# Altium footprint library Capacitor_THT.PcbLib: 378 footprints (part 6 of 24)
Each footprint in its own frame and in the unit in brackets; x right, y up, seen from the top. Pads: shape width x height; smd on the part's side, far side on the other; paste and mask are expansions set on the pad; w line width, h text height; cw(c..) or ccw(c..) is an arc to the next point about the centre after c.
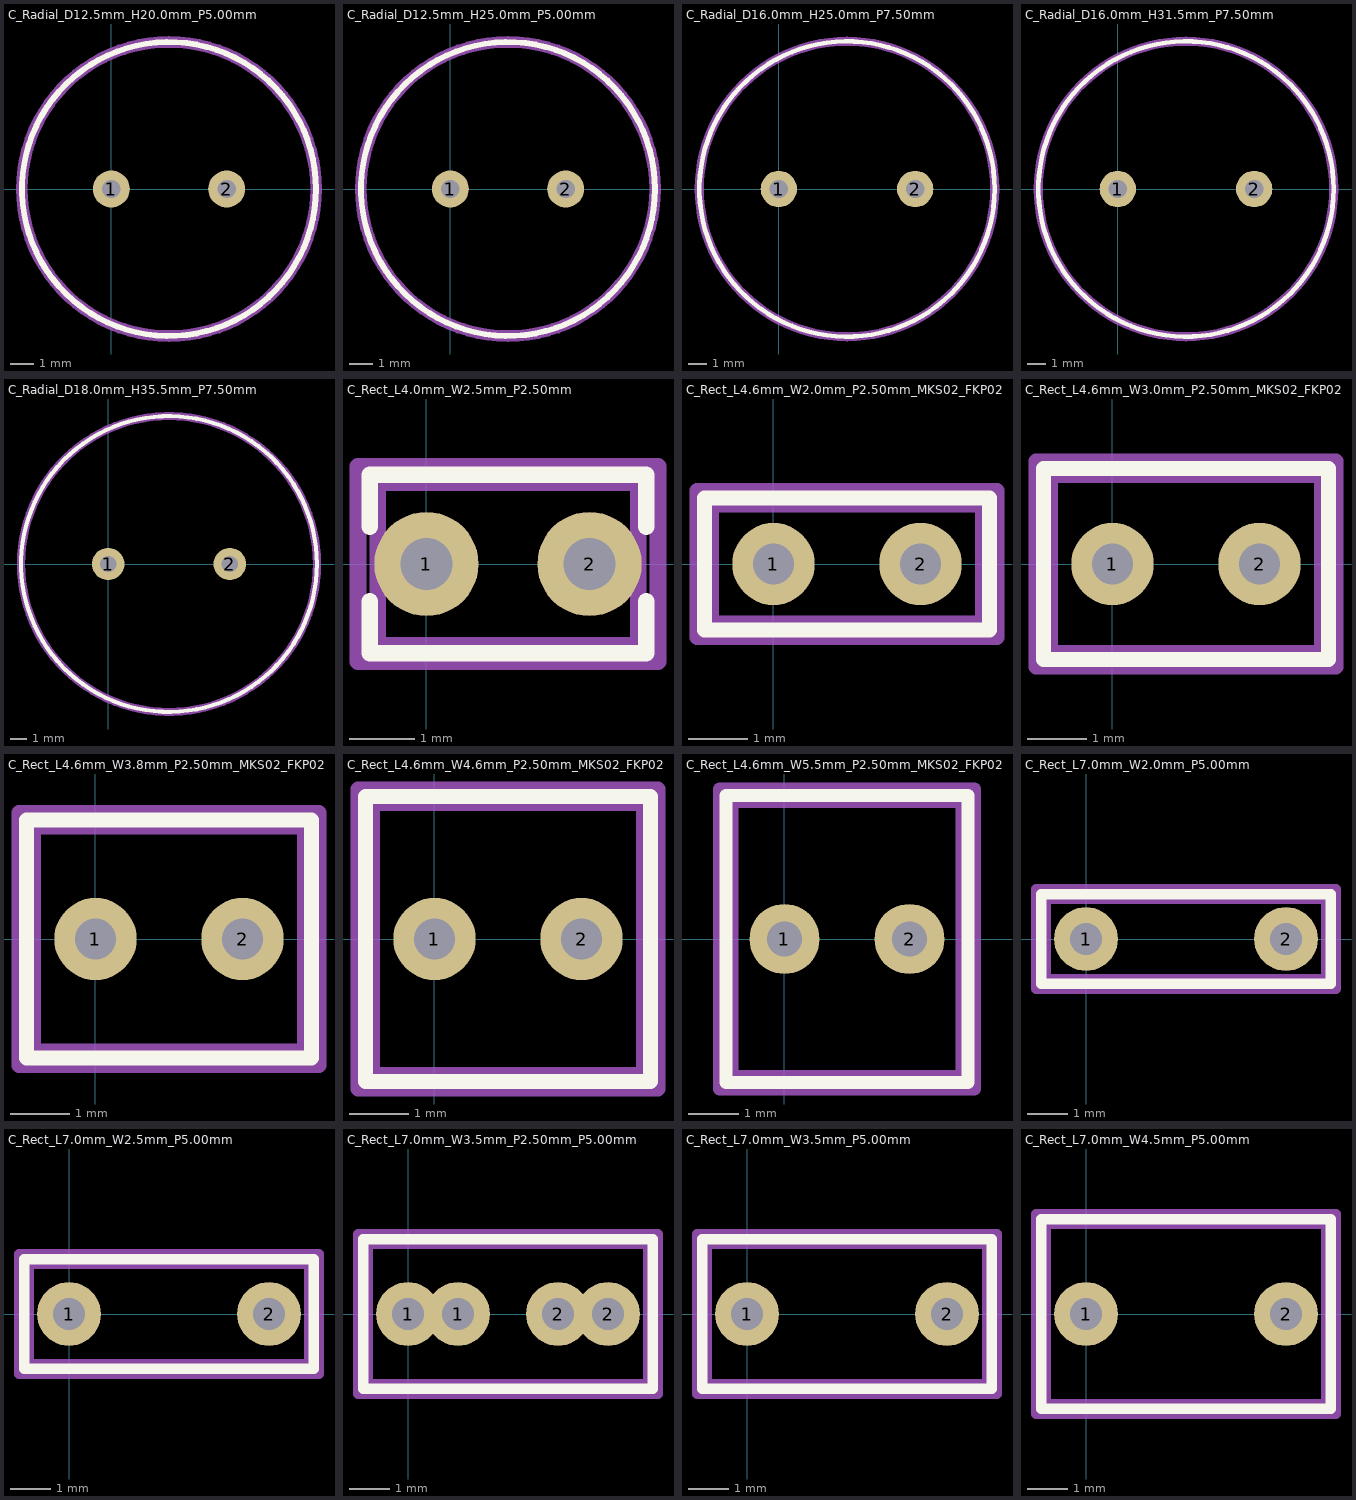
[diagram p5: the footprints below, top view; thin cyan lines are the x and y axes]

## C_Radial_D12.5mm_H20.0mm_P5.00mm [mm] "C_Radial_D12.5mm_H20.0mm_P5.00mm"
pads (2):
  round 1.6 hole 0.8: 1(0,0) 2(5,0)
F.SilkS:
  circle w0.254: c2.5,0 r6.37
Top Component Center:
  lines w0.127: -0.127,0 0.127,0 ; 0,-0.127 0,0.127
Top Assembly:
  circle w0.254: c2.5,0 r6.25
Top Courtyard:
  circle w0.254: c2.5,0 r6.5
Top Designator:
  text ".Designator" at 2.845,-3.434 h1.52
3D body "C_Radial_D12.5mm_H20.0mm_P5.00mm.step": height 20, standoff -2, extent -3.75,-6.248 8.75,6.247

## C_Radial_D12.5mm_H25.0mm_P5.00mm [mm] "C_Radial_D12.5mm_H25.0mm_P5.00mm"
pads (2):
  round 1.6 hole 0.8: 1(0,0) 2(5,0)
F.SilkS:
  circle w0.254: c2.5,0 r6.37
Top Component Center:
  lines w0.127: -0.127,0 0.127,0 ; 0,-0.127 0,0.127
Top Assembly:
  circle w0.254: c2.5,0 r6.25
Top Courtyard:
  circle w0.254: c2.5,0 r6.5
Top Designator:
  text ".Designator" at 2.845,-3.434 h1.52
3D body "C_Radial_D12.5mm_H25.0mm_P5.00mm.step": height 25, standoff -2, extent -3.75,-6.25 8.75,6.25

## C_Radial_D16.0mm_H25.0mm_P7.50mm [mm] "C_Radial_D16.0mm_H25.0mm_P7.50mm"
pads (2):
  round 2 hole 1: 1(0,0) 2(7.5,0)
F.SilkS:
  circle w0.254: c3.75,0 r8.12
Top Component Center:
  lines w0.127: -0.127,0 0.127,0 ; 0,-0.127 0,0.127
Top Assembly:
  circle w0.254: c3.75,0 r8
Top Courtyard:
  circle w0.254: c3.75,0 r8.25
Top Designator:
  text ".Designator" at 4.155,-3.561 h1.52
3D body "C_Radial_D16.0mm_H25.0mm_P7.50mm.step": height 25, standoff -2, extent -4.25,-7.997 11.75,7.997

## C_Radial_D16.0mm_H31.5mm_P7.50mm [mm] "C_Radial_D16.0mm_H31.5mm_P7.50mm"
pads (2):
  round 2 hole 1: 1(0,0) 2(7.5,0)
F.SilkS:
  circle w0.254: c3.75,0 r8.12
Top Component Center:
  lines w0.127: -0.127,0 0.127,0 ; 0,-0.127 0,0.127
Top Assembly:
  circle w0.254: c3.75,0 r8
Top Courtyard:
  circle w0.254: c3.75,0 r8.25
Top Designator:
  text ".Designator" at 4.028,-3.561 h1.52
3D body "C_Radial_D16.0mm_H31.5mm_P7.50mm.step": height 31.5, standoff -2, extent -4.25,-8 11.75,7.996

## C_Radial_D18.0mm_H35.5mm_P7.50mm [mm] "C_Radial_D18.0mm_H35.5mm_P7.50mm"
pads (2):
  round 2 hole 1: 1(0,0) 2(7.5,0)
F.SilkS:
  circle w0.254: c3.75,0 r9.12
Top Component Center:
  lines w0.127: -0.127,0 0.127,0 ; 0,-0.127 0,0.127
Top Assembly:
  circle w0.254: c3.75,0 r9
Top Courtyard:
  circle w0.254: c3.75,0 r9.25
Top Designator:
  text ".Designator" at 4.028,-3.561 h1.52
3D body "C_Radial_D18.0mm_H35.5mm_P7.50mm.step": height 35.5, standoff -2, extent -5.249,-9 12.75,8.995

## C_Rect_L4.0mm_W2.5mm_P2.50mm [mm] "C_Rect_L4.0mm_W2.5mm_P2.50mm"
pads (2):
  round 1.6 hole 0.8: 1(0,0) 2(2.5,0)
F.SilkS:
  lines w0.254: -0.87,-0.57 -0.87,-1.37 3.37,-1.37 3.37,-0.57 ; -0.87,0.57 -0.87,1.37 3.37,1.37 3.37,0.57
Top Component Center:
  lines w0.127: -0.127,0 0.127,0 ; 0,-0.127 0,0.127
Top Assembly:
  lines w0.254: -0.75,-1.25 -0.75,1.25 3.25,1.25 3.25,-1.25 -0.75,-1.25
Top Courtyard:
  lines w0.254: -1.05,-1.5 -1.05,1.5 3.55,1.5 3.55,-1.5 -1.05,-1.5
Top Designator:
  text ".Designator" at 1.44,-1.689 h0.75
3D body "C_Rect_L4.0mm_W2.5mm_P2.50mm.step": height 10, standoff -1.9, extent -0.75,-1.25 3.25,1.25

## C_Rect_L4.6mm_W2.0mm_P2.50mm_MKS02_FKP02 [mm] "C_Rect_L4.6mm_W2.0mm_P2.50mm_MKS02_FKP02"
pads (2):
  round 1.4 hole 0.7: 1(0,0) 2(2.5,0)
F.SilkS:
  lines w0.254: -1.17,-1.12 3.67,-1.12 3.67,1.12 -1.17,1.12 -1.17,-1.12
Top Component Center:
  lines w0.127: -0.127,0 0.127,0 ; 0,-0.127 0,0.127
Top Assembly:
  lines w0.254: -1.05,-1 3.55,-1 3.55,1 -1.05,1 -1.05,-1
Top Courtyard:
  lines w0.254: -1.3,-1.25 3.8,-1.25 3.8,1.25 -1.3,1.25 -1.3,-1.25
Top Designator:
  text ".Designator" at 1.44,-1.689 h0.75
3D body "C_Rect_L4.6mm_W2.0mm_P2.50mm_MKS02_FKP02.step": height 7, standoff -1.9, extent -1.05,-1 3.55,1

## C_Rect_L4.6mm_W3.0mm_P2.50mm_MKS02_FKP02 [mm] "C_Rect_L4.6mm_W3.0mm_P2.50mm_MKS02_FKP02"
pads (2):
  round 1.4 hole 0.7: 1(0,0) 2(2.5,0)
F.SilkS:
  lines w0.254: -1.17,-1.62 -1.17,1.62 3.67,1.62 3.67,-1.62 -1.17,-1.62
Top Component Center:
  lines w0.127: -0.127,0 0.127,0 ; 0,-0.127 0,0.127
Top Assembly:
  lines w0.254: -1.05,-1.5 -1.05,1.5 3.55,1.5 3.55,-1.5 -1.05,-1.5
Top Courtyard:
  lines w0.254: -1.3,-1.75 -1.3,1.75 3.8,1.75 3.8,-1.75 -1.3,-1.75
Top Designator:
  text ".Designator" at -2.108,-1.355 h1.5
3D body "C_Rect_L4.6mm_W3.0mm_P2.50mm_MKS02_FKP02.step": height 7, standoff -1.9, extent -1.05,-1.5 3.55,1.5

## C_Rect_L4.6mm_W3.8mm_P2.50mm_MKS02_FKP02 [mm] "C_Rect_L4.6mm_W3.8mm_P2.50mm_MKS02_FKP02"
pads (2):
  round 1.4 hole 0.7: 1(0,0) 2(2.5,0)
F.SilkS:
  lines w0.254: -1.17,-2.02 -1.17,2.02 3.67,2.02 3.67,-2.02 -1.17,-2.02
Top Component Center:
  lines w0.127: -0.127,0 0.127,0 ; 0,-0.127 0,0.127
Top Assembly:
  lines w0.254: -1.05,-1.9 -1.05,1.9 3.55,1.9 3.55,-1.9 -1.05,-1.9
Top Courtyard:
  lines w0.254: -1.3,-2.15 -1.3,2.15 3.8,2.15 3.8,-2.15 -1.3,-2.15
Top Designator:
  text ".Designator" at -0.982,-1.623 h1
3D body "C_Rect_L4.6mm_W3.8mm_P2.50mm_MKS02_FKP02.step": height 7, standoff -1.9, extent -1.05,-1.9 3.55,1.9

## C_Rect_L4.6mm_W4.6mm_P2.50mm_MKS02_FKP02 [mm] "C_Rect_L4.6mm_W4.6mm_P2.50mm_MKS02_FKP02"
pads (2):
  round 1.4 hole 0.7: 1(0,0) 2(2.5,0)
F.SilkS:
  lines w0.254: -1.17,-2.42 -1.17,2.42 3.67,2.42 3.67,-2.42 -1.17,-2.42
Top Component Center:
  lines w0.127: -0.127,0 0.127,0 ; 0,-0.127 0,0.127
Top Assembly:
  lines w0.254: -1.05,-2.3 -1.05,2.3 3.55,2.3 3.55,-2.3 -1.05,-2.3
Top Courtyard:
  lines w0.254: -1.3,-2.55 -1.3,2.55 3.8,2.55 3.8,-2.55 -1.3,-2.55
Top Designator:
  text ".Designator" at -0.982,-1.877 h1
3D body "C_Rect_L4.6mm_W4.6mm_P2.50mm_MKS02_FKP02.step": height 7, standoff -1.9, extent -1.05,-2.3 3.55,2.3

## C_Rect_L4.6mm_W5.5mm_P2.50mm_MKS02_FKP02 [mm] "C_Rect_L4.6mm_W5.5mm_P2.50mm_MKS02_FKP02"
pads (2):
  round 1.4 hole 0.7: 1(0,0) 2(2.5,0)
F.SilkS:
  lines w0.254: -1.17,-2.87 3.67,-2.87 3.67,2.87 -1.17,2.87 -1.17,-2.87
Top Component Center:
  lines w0.127: -0.127,0 0.127,0 ; 0,-0.127 0,0.127
Top Assembly:
  lines w0.254: -1.05,-2.75 3.55,-2.75 3.55,2.75 -1.05,2.75 -1.05,-2.75
Top Courtyard:
  lines w0.254: -1.3,-3 3.8,-3 3.8,3 -1.3,3 -1.3,-3
Top Designator:
  text ".Designator" at 1.488,-3.434 h1.52
3D body "C_Rect_L4.6mm_W5.5mm_P2.50mm_MKS02_FKP02.step": height 7, standoff -1.9, extent -1.05,-2.75 3.55,2.75

## C_Rect_L7.0mm_W2.0mm_P5.00mm [mm] "C_Rect_L7.0mm_W2.0mm_P5.00mm"
pads (2):
  round 1.6 hole 0.8: 1(0,0) 2(5,0)
F.SilkS:
  lines w0.254: -1.12,-1.12 6.12,-1.12 6.12,1.12 -1.12,1.12 -1.12,-1.12
Top Component Center:
  lines w0.127: -0.127,0 0.127,0 ; 0,-0.127 0,0.127
Top Assembly:
  lines w0.254: -1,-1 6,-1 6,1 -1,1 -1,-1
Top Courtyard:
  lines w0.254: -1.25,-1.25 6.25,-1.25 6.25,1.25 -1.25,1.25 -1.25,-1.25
Top Designator:
  text ".Designator" at 0.542,-0.861 h1
3D body "C_Rect_L7.0mm_W2.0mm_P5.00mm.step": height 10, standoff -1.9, extent -1,-1 6,1

## C_Rect_L7.0mm_W2.5mm_P5.00mm [mm] "C_Rect_L7.0mm_W2.5mm_P5.00mm"
pads (2):
  round 1.6 hole 0.8: 1(0,0) 2(5,0)
F.SilkS:
  lines w0.254: -1.12,-1.37 6.12,-1.37 6.12,1.37 -1.12,1.37 -1.12,-1.37
Top Component Center:
  lines w0.127: -0.127,0 0.127,0 ; 0,-0.127 0,0.127
Top Assembly:
  lines w0.254: -1,-1.25 6,-1.25 6,1.25 -1,1.25 -1,-1.25
Top Courtyard:
  lines w0.254: -1.25,-1.5 6.25,-1.5 6.25,1.5 -1.25,1.5 -1.25,-1.5
Top Designator:
  text ".Designator" at -0.894,-1.234 h1.52
3D body "C_Rect_L7.0mm_W2.5mm_P5.00mm.step": height 10, standoff -1.9, extent -1,-1.25 6,1.25

## C_Rect_L7.0mm_W3.5mm_P2.50mm_P5.00mm [mm] "C_Rect_L7.0mm_W3.5mm_P2.50mm_P5.00mm"
pads (4):
  round 1.6 hole 0.8: 1(0,0) 1(1.25,0) 2(3.75,0) 2(5,0)
F.SilkS:
  lines w0.254: -1.12,-1.87 6.12,-1.87 6.12,1.87 -1.12,1.87 -1.12,-1.87
Top Component Center:
  lines w0.127: -0.127,0 0.127,0 ; 0,-0.127 0,0.127
Top Assembly:
  lines w0.254: -1,-1.75 6,-1.75 6,1.75 -1,1.75 -1,-1.75
Top Courtyard:
  lines w0.254: -1.25,-2 6.25,-2 6.25,2 -1.25,2 -1.25,-2
Top Designator:
  text ".Designator" at -1.021,-1.615 h1.52
3D body "C_Rect_L7.0mm_W3.5mm_P2.50mm_P5.00mm.step": height 10, standoff -1.9, extent -1,-1.75 6,1.75

## C_Rect_L7.0mm_W3.5mm_P5.00mm [mm] "C_Rect_L7.0mm_W3.5mm_P5.00mm"
pads (2):
  round 1.6 hole 0.8: 1(0,0) 2(5,0)
F.SilkS:
  lines w0.254: -1.12,-1.87 6.12,-1.87 6.12,1.87 -1.12,1.87 -1.12,-1.87
Top Component Center:
  lines w0.127: -0.127,0 0.127,0 ; 0,-0.127 0,0.127
Top Assembly:
  lines w0.254: -1,-1.75 6,-1.75 6,1.75 -1,1.75 -1,-1.75
Top Courtyard:
  lines w0.254: -1.25,-2 6.25,-2 6.25,2 -1.25,2 -1.25,-2
Top Designator:
  text ".Designator" at -0.894,-1.615 h1.52
3D body "C_Rect_L7.0mm_W3.5mm_P5.00mm.step": height 10, standoff -1.9, extent -1,-1.75 6,1.75

## C_Rect_L7.0mm_W4.5mm_P5.00mm [mm] "C_Rect_L7.0mm_W4.5mm_P5.00mm"
pads (2):
  round 1.6 hole 0.8: 1(0,0) 2(5,0)
F.SilkS:
  lines w0.254: -1.12,-2.37 6.12,-2.37 6.12,2.37 -1.12,2.37 -1.12,-2.37
Top Component Center:
  lines w0.127: -0.127,0 0.127,0 ; 0,-0.127 0,0.127
Top Assembly:
  lines w0.254: -1,-2.25 6,-2.25 6,2.25 -1,2.25 -1,-2.25
Top Courtyard:
  lines w0.254: -1.25,-2.5 6.25,-2.5 6.25,2.5 -1.25,2.5 -1.25,-2.5
Top Designator:
  text ".Designator" at -1.148,-1.869 h1.52
3D body "C_Rect_L7.0mm_W4.5mm_P5.00mm.step": height 10, standoff -1.9, extent -1,-2.25 6,2.25